# Altium footprint library MasterLib.PcbLib: 80 footprints (part 4 of 5)
Each footprint in its own frame and in the unit in brackets; x right, y up, seen from the top. Pads: shape width x height; smd on the part's side, far side on the other; paste and mask are expansions set on the pad; w line width, h text height; cw(c..) or ccw(c..) is an arc to the next point about the centre after c.
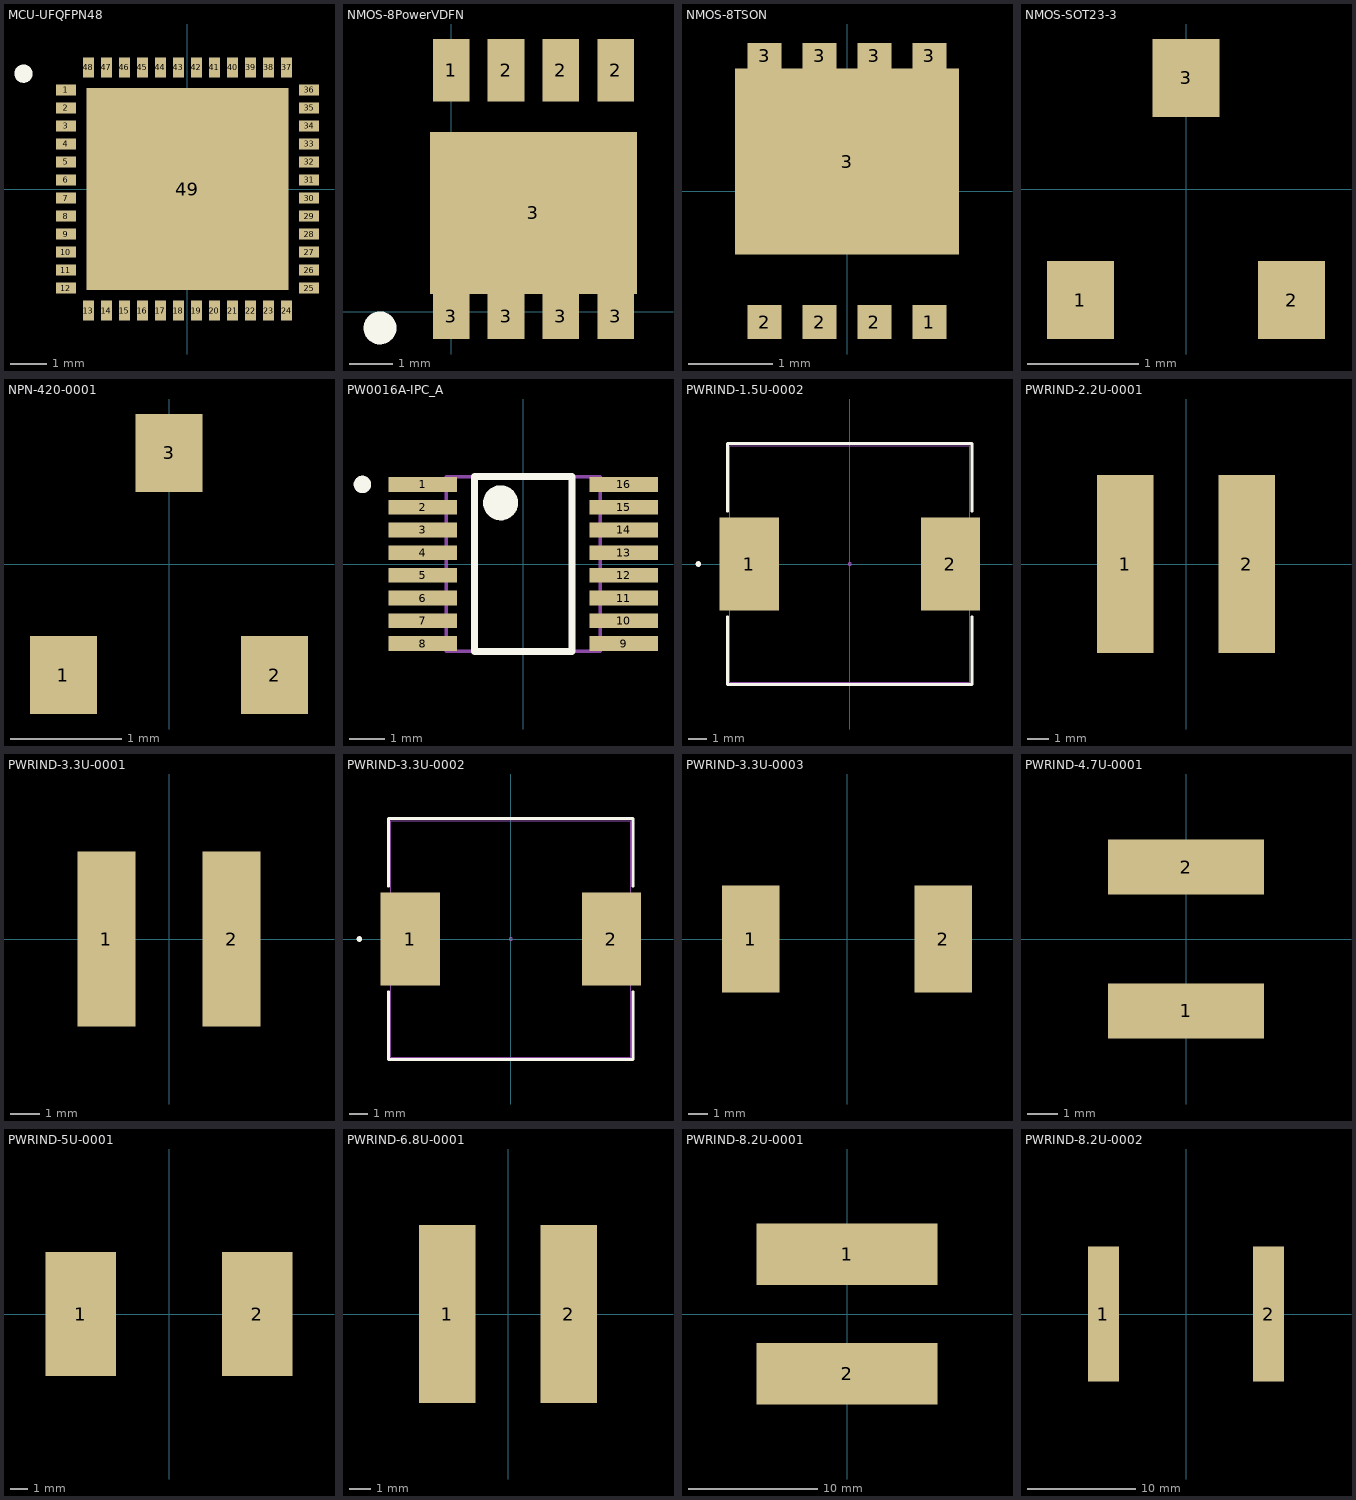
[diagram p3: the footprints below, top view; thin cyan lines are the x and y axes]

## MCU-UFQFPN48 [mm] "STM32G431CBU6"
pads (49):
  rect 0.55x0.3 smd mask+0.07: 1(-3.375,2.75) 2(-3.375,2.25) 3(-3.375,1.75) 4(-3.375,1.25) 5(-3.375,0.75) 6(-3.375,0.25) 7(-3.375,-0.25) 8(-3.375,-0.75) 9(-3.375,-1.25) 10(-3.375,-1.75) 11(-3.375,-2.25) 12(-3.375,-2.75) 25(3.375,-2.75) 26(3.375,-2.25) 27(3.375,-1.75) 28(3.375,-1.25) 29(3.375,-0.75) 30(3.375,-0.25) 31(3.375,0.25) 32(3.375,0.75) 33(3.375,1.25) 34(3.375,1.75) 35(3.375,2.25) 36(3.375,2.75)
  rect 0.3x0.55 smd mask+0.07: 13(-2.75,-3.375) 14(-2.25,-3.375) 15(-1.75,-3.375) 16(-1.25,-3.375) 17(-0.75,-3.375) 18(-0.25,-3.375) 19(0.25,-3.375) 20(0.75,-3.375) 21(1.25,-3.375) 22(1.75,-3.375) 23(2.25,-3.375) 24(2.75,-3.375) 37(2.75,3.375) 38(2.25,3.375) 39(1.75,3.375) 40(1.25,3.375) 41(0.75,3.375) 42(0.25,3.375) 43(-0.25,3.375) 44(-0.75,3.375) 45(-1.25,3.375) 46(-1.75,3.375) 47(-2.25,3.375) 48(-2.75,3.375)
  rect 5.6x5.6 smd: 49(0,0)
Top Overlay:
  circle w0.254: c-4.55,3.2 r0.125
3D body "UFQFPN-48_7X7X0P55MM.step": height 0.61, standoff 0, extent -3.556,-3.556 3.556,3.556

## NMOS-8PowerVDFN [mm]
pads (9):
  rect 0.85x1.45 smd: 1(0,5.588) 2(1.27,5.588) 2(2.54,5.588) 2(3.81,5.588)
  rect 0.85x1.05 smd: 3(0,-0.112) 3(1.27,-0.112) 3(2.54,-0.112) 3(3.81,-0.112)
  rect 4.8x3.75 smd: 3(1.905,2.286)
Top Overlay:
  circle w0.254: c-1.651,-0.381 r0.254
  lines w0.254: -1.905,-0.381 -1.397,-0.381 -1.651,-0.381 ; -1.651,-0.635 -1.651,-0.381 ; -1.651,-0.127 -1.651,-0.381

## NMOS-8TSON [mm]
pads (9):
  rect 0.4x0.4 smd: 1(0.975,-1.55) 2(-0.975,-1.55) 2(-0.325,-1.55) 2(0.325,-1.55)
  rect 0.4x0.3 smd: 3(-0.975,1.6) 3(-0.325,1.6) 3(0.325,1.6) 3(0.975,1.6)
  rect 2.65x2.2 smd: 3(0,0.35)
3D body "TSON Advance.STEP": height 0.85, standoff 0, extent -1.65,-1.65 1.65,1.65

## NMOS-SOT23-3 [mm]
pads (3):
  rect 0.6x0.7 smd: 1(-0.95,-1) 2(0.95,-1) 3(0,1)
3D body "LM4040C20IDBZTG4.STEP": height 1.12, standoff 0, extent -1.46,-1.185 1.46,1.185

## NPN-420-0001 [mm]
pads (3):
  rect 0.6x0.7 smd: 1(-0.95,-1) 2(0.95,-1) 3(0,1)
3D body "SOT23_NXP.step": height 1.09, standoff 0, extent -1.499,-1.25 1.499,1.25

## PW0016A-IPC_A [mm]
pads (16):
  rect 1.955x0.421 smd paste+0 mask+0: 1(-2.875,2.275) 2(-2.875,1.625) 3(-2.875,0.975) 4(-2.875,0.325) 5(-2.875,-0.325) 6(-2.875,-0.975) 7(-2.875,-1.625) 8(-2.875,-2.275) 9(2.875,-2.275) 10(2.875,-1.625) 11(2.875,-0.975) 12(2.875,-0.325) 13(2.875,0.325) 14(2.875,0.975) 15(2.875,1.625) 16(2.875,2.275)
Top Overlay:
  circle w0.25: c-4.603,2.275 r0.125
  circle w0.5: c-0.648,1.75 r0.25
  lines w0.2: -1.398,-2.5 -1.398,2.5 1.398,2.5 1.398,-2.5 -1.398,-2.5
Mechanical 13:
  lines w0.1: -2.2,-2.5 -2.2,2.5 2.2,2.5 2.2,-2.5 -2.2,-2.5

## PWRIND-1.5U-0002 [mil]
pads (2):
  rect 126x199 smd paste+0 mask+0: 1(-214.59,0) 2(214.59,0)
Top Overlay:
  circle w6: c-323.09,0 r3
  lines w6: -261,-112.6 -261,-257 261,-257 261,-112.6 ; -261,112.6 -261,257 261,257 261,112.6
Mechanical 13:
  circle w0: c0,0 r3
  lines w1: -256,-252 -256,252 256,252 256,-252 -256,-252
3D body "SRP1265A-470M_BRN.step": height 256.1, standoff 0, extent -275.59,-252.01 275.59,252.01

## PWRIND-2.2U-0001 [mm]
pads (2):
  rect 2.6x8.2 smd: 1(-2.8,0) 2(2.8,0)
3D body "srn8040-2r2y.stp": height 4, standoff 0, extent -4,-4 4,4

## PWRIND-3.3U-0001 [mm]
pads (2):
  rect 2x6 smd: 1(-2.15,0) 2(2.15,0)
3D body "SRN6045-3R3Y--3DModel-STEP-269445.STEP": height 4.5, standoff 0, extent -3,-3 3,3

## PWRIND-3.3U-0002 [mil]
pads (2):
  rect 126x199 smd paste+0 mask+0: 1(-214.59,0) 2(214.59,0)
Top Overlay:
  circle w6: c-323.09,0 r3
  lines w6: -261,-112.6 -261,-257 261,-257 261,-112.6 ; -261,112.6 -261,257 261,257 261,112.6
Mechanical 13:
  circle w0: c0,0 r3
  lines w1: -256,-252 -256,252 256,252 256,-252 -256,-252
3D body "SRP1265A-470M_BRN.step": height 256.1, standoff 0, extent -275.59,-252.01 275.59,252.01

## PWRIND-3.3U-0003 [mm]
pads (2):
  rect 2.9x5.4 smd: 1(-4.85,0) 2(4.85,0)
3D body "IND_BOURNS_SRR1240.step": height 4.5, standoff 0, extent -6.401,-6.403 6.401,6.403

## PWRIND-4.7U-0001 [mm]
pads (2):
  rect 5.1x1.8 smd: 1(0,-2.35) 2(0,2.35)

## PWRIND-5U-0001 [mm]
pads (2):
  rect 4x7 smd: 1(-5,0) 2(5,0)
3D body "IND_BOURNS_SRR1240.step": height 4.5, standoff 0, extent -6.401,-6.403 6.401,6.403

## PWRIND-6.8U-0001 [mm]
pads (2):
  rect 2.6x8.2 smd: 1(-2.8,0) 2(2.8,0)
3D body "srn8040-4r7y.stp": height 4, standoff 0, extent -4,-4 4,4

## PWRIND-8.2U-0001 [mm]
pads (2):
  rect 14x4.75 smd: 1(0,4.625) 2(0,-4.625)
3D body "SDR1307.STP": height 7, standoff 0, extent -6.5,-6.5 6.5,6.5

## PWRIND-8.2U-0002 [mm]
pads (2):
  rect 2.875x12.45 smd: 1(-7.642,0) 2(7.642,0)
3D body "IHLP6767GZ.step": height 6.89, standoff 0, extent -8.704,-8.712 8.471,8.464